# Altium integrated library 0786463001.IntLib: 1 symbol
Pins are listed as number, name and electrical type; pins without a type are passive.

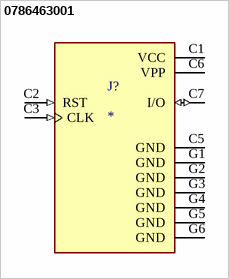
[diagram p0: symbol 0786463001]

## 0786463001
designator J?
6 Position Card Connector Micro SIM Surface Mount, Right Angle Gold; MF: Molex; MP: 0786463001; Check_prices: https://www.snapeda.com/parts/0786463001/Molex/view-part/?ref=eda; SnapEDA_Link: https://www.snapeda.com/parts/0786463001/Molex/view-part/?ref=snap; Value: *; Purchase-URL: https://pricing.snapeda.com/search/part/0786463001/?ref=eda; Availability: In Stock; Price: None; Package: None
footprint MOLEX_0786463001
pins: C1 VCC (power), C2 RST (in), C3 CLK (in), C5 GND (power), C6 VPP (power), C7 I/O (io), G1 GND (power), G2 GND (power), G3 GND (power), G4 GND (power), G5 GND (power), G6 GND (power)